# Altium schematic symbol library SCH - INTERFACE - INTERSIL ISL3330.SCHLIB: 1 symbol
Pins are listed as number, name and electrical type; pins without a type are passive.

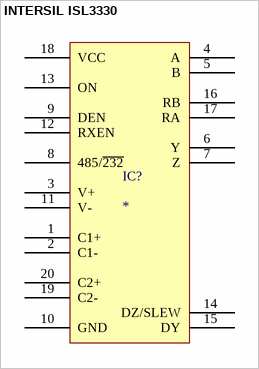
[diagram p0: symbol INTERSIL ISL3330]

## INTERSIL ISL3330
designator IC?
pins: 1 C1+, 2 C1-, 3 V+, 4 A, 5 B, 6 Y, 7 Z, 8 485/~{232}, 9 DEN, 10 GND, 11 V-, 12 RXEN, 13 ON, 14 DZ/SLEW, 15 DY, 16 RB, 17 RA, 18 VCC, 19 C2-, 20 C2+